# Altium footprint library TO-263-7.PcbLib: 1 footprints
Each footprint in its own frame and in the unit in brackets; x right, y up, seen from the top. Pads: shape width x height; smd on the part's side, far side on the other; paste and mask are expansions set on the pad; w line width, h text height; cw(c..) or ccw(c..) is an arc to the next point about the centre after c.
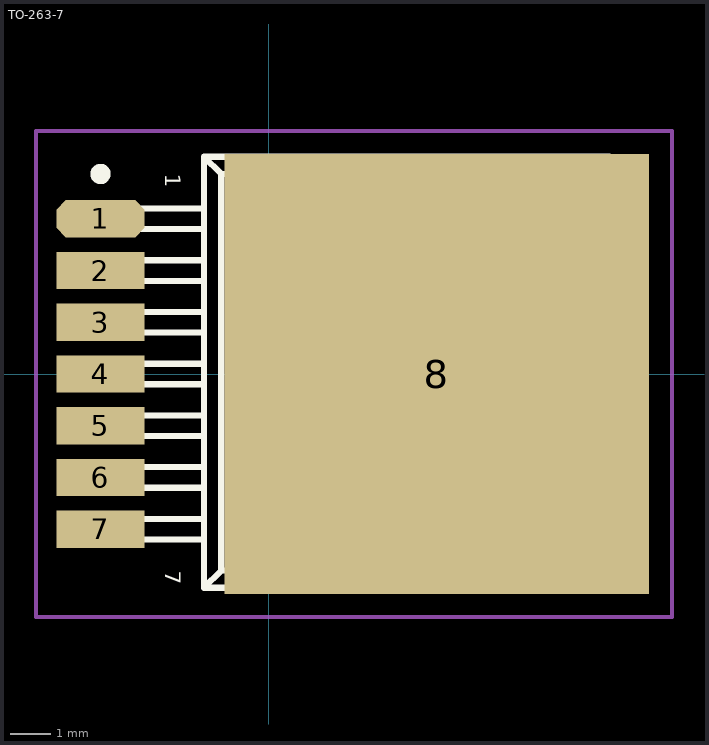
[diagram p0: the footprint, top view; thin cyan lines are the x and y axes]

## TO-263-7 [mil] "LM2588 SIMPLE SWITCHER 5A Flyback Regulator with Shutdown"
height 179.92
pads (8):
  oct 85x36 smd: 1(-162.5,150)
  rect 85x36 smd: 2(-162.5,100) 3(-162.5,50) 4(-162.5,0) 5(-162.5,-50) 6(-162.5,-100) 7(-162.5,-150)
  rect 410x425 smd: 8(162.5,0)
Top Overlay:
  circle w9.84: c-162.5,193.33 r4.92
  lines w6: -62.5,-160 -162.5,-160 -162.5,-140 -62.5,-140 ; -62.5,-110 -162.5,-110 -162.5,-90 -62.5,-90 ; -62.5,-60 -162.5,-60 -162.5,-40 -62.5,-40 ; -62.5,-10 -162.5,-10 -162.5,10 -62.5,10 ; -62.5,40 -162.5,40 -162.5,60 -62.5,60 ; -62.5,90 -162.5,90 -162.5,110 -62.5,110 ; -62.5,140 -162.5,140 -162.5,160 -62.5,160 ; -62.5,-206.67 -45.83,-190 ; -62.5,-206.67 -62.5,210 ; -62.5,-206.67 279.17,-206.67 ; -62.5,210 -45.83,193.33 ; -62.5,210 279.17,210 ; -45.83,-190 -45.83,193.33 ; -45.83,-190 262.5,-190 ; -45.83,193.33 262.5,193.33 ; 262.5,-190 279.17,-206.67 ; 262.5,-190 262.5,193.33 ; 262.5,193.33 279.17,210 ; 279.17,-206.67 279.17,210 ; 279.17,-206.67 329.17,-206.67 345.83,-148.33 345.83,151.67 329.17,210 279.17,210
  text "7" at -100,-190 h15
  text "1" at -100,193.33 h15
Mechanical 15:
  lines w3.94: -19.69,0 19.68,0 ; 0,-19.68 0,19.68 ; -225,-235 -225,235 390,235 390,-235 -225,-235
3D body: height 183.07, standoff 0, extent -62.5,-206.67 279.17,210